# EAGLE library part KB_A2000 (library Amiga)
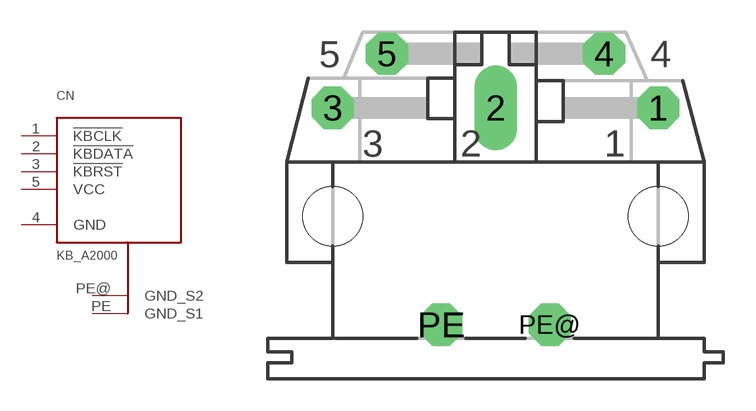
[diagram p35: symbol with the pads of MAB5SH; footprint MAB5SH]

Designator prefix CN

## KB_A2000  [MAB5SH]
1  !KBCLK
2  !KBDATA
3  !KBRST
4  GND  pwr
5  VCC  pwr
PE  GND_S1  pwr
PE@  GND_S2  pwr

## Footprint MAB5SH (pad centres in mm)
drill 1.321 octagon: 1 7.62,6.35; 3 -7.62,6.35; 4 5.08,8.89; 5 -5.08,8.89; PE -2.54,-3.81; PE@ 2.54,-3.81
drill 1.321 long: 2 0,6.35
hole 2.794 at 7.62,1.27
hole 2.794 at -7.62,1.27